# Altium footprint library MSOP10_3X3.PcbLib: 1 footprints
Each footprint in its own frame and in the unit in brackets; x right, y up, seen from the top. Pads: shape width x height; smd on the part's side, far side on the other; paste and mask are expansions set on the pad; w line width, h text height; cw(c..) or ccw(c..) is an arc to the next point about the centre after c.
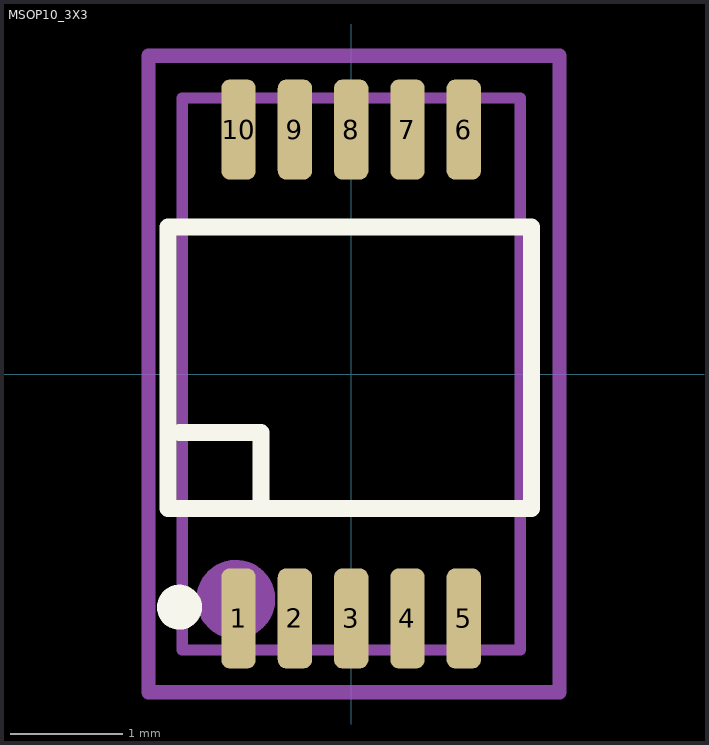
[diagram p0: the footprint, top view; thin cyan lines are the x and y axes]

## MSOP10_3X3 [mm]
pads (10):
  rrect50% 0.305x0.889 smd mask+0.05: 1(-1,-2.17) 2(-0.5,-2.17) 3(0,-2.17) 4(0.5,-2.17) 5(1,-2.17) 6(1,2.171) 7(0.5,2.171) 8(0,2.171) 9(-0.5,2.171) 10(-1,2.171)
Top Overlay:
  circle w0.2: c-1.525,-2.07 r0.1
  lines w0.152: -1.525,-0.52 -0.8,-0.52 -0.8,-1.195 ; -1.625,-1.195 -1.625,1.305 -1.2,1.305 1.6,1.305 1.6,-1.195 -1.625,-1.195
Top Assembly:
  circle w0.3: c-1.025,-2 r0.2
  lines w0.1: -1.5,-2.45 1.5,-2.45 1.5,2.45 -1.5,2.45 -1.5,-2.45
  text "'.Designator'" at -1.114,0.05 h0.2
Top Courtyard:
  lines w0.127: -1.8,-2.825 1.85,-2.825 1.85,2.825 -1.8,2.825 -1.8,-2.825
3D body "User Library-msop-10.step": height 1.14, standoff -0.01, extent -1.5,-2.45 1.5,2.45